# Altium footprint library ECR_Plib.PcbLib: 18 footprints (part 1 of 2)
Each footprint in its own frame and in the unit in brackets; x right, y up, seen from the top. Pads: shape width x height; smd on the part's side, far side on the other; paste and mask are expansions set on the pad; w line width, h text height; cw(c..) or ccw(c..) is an arc to the next point about the centre after c.
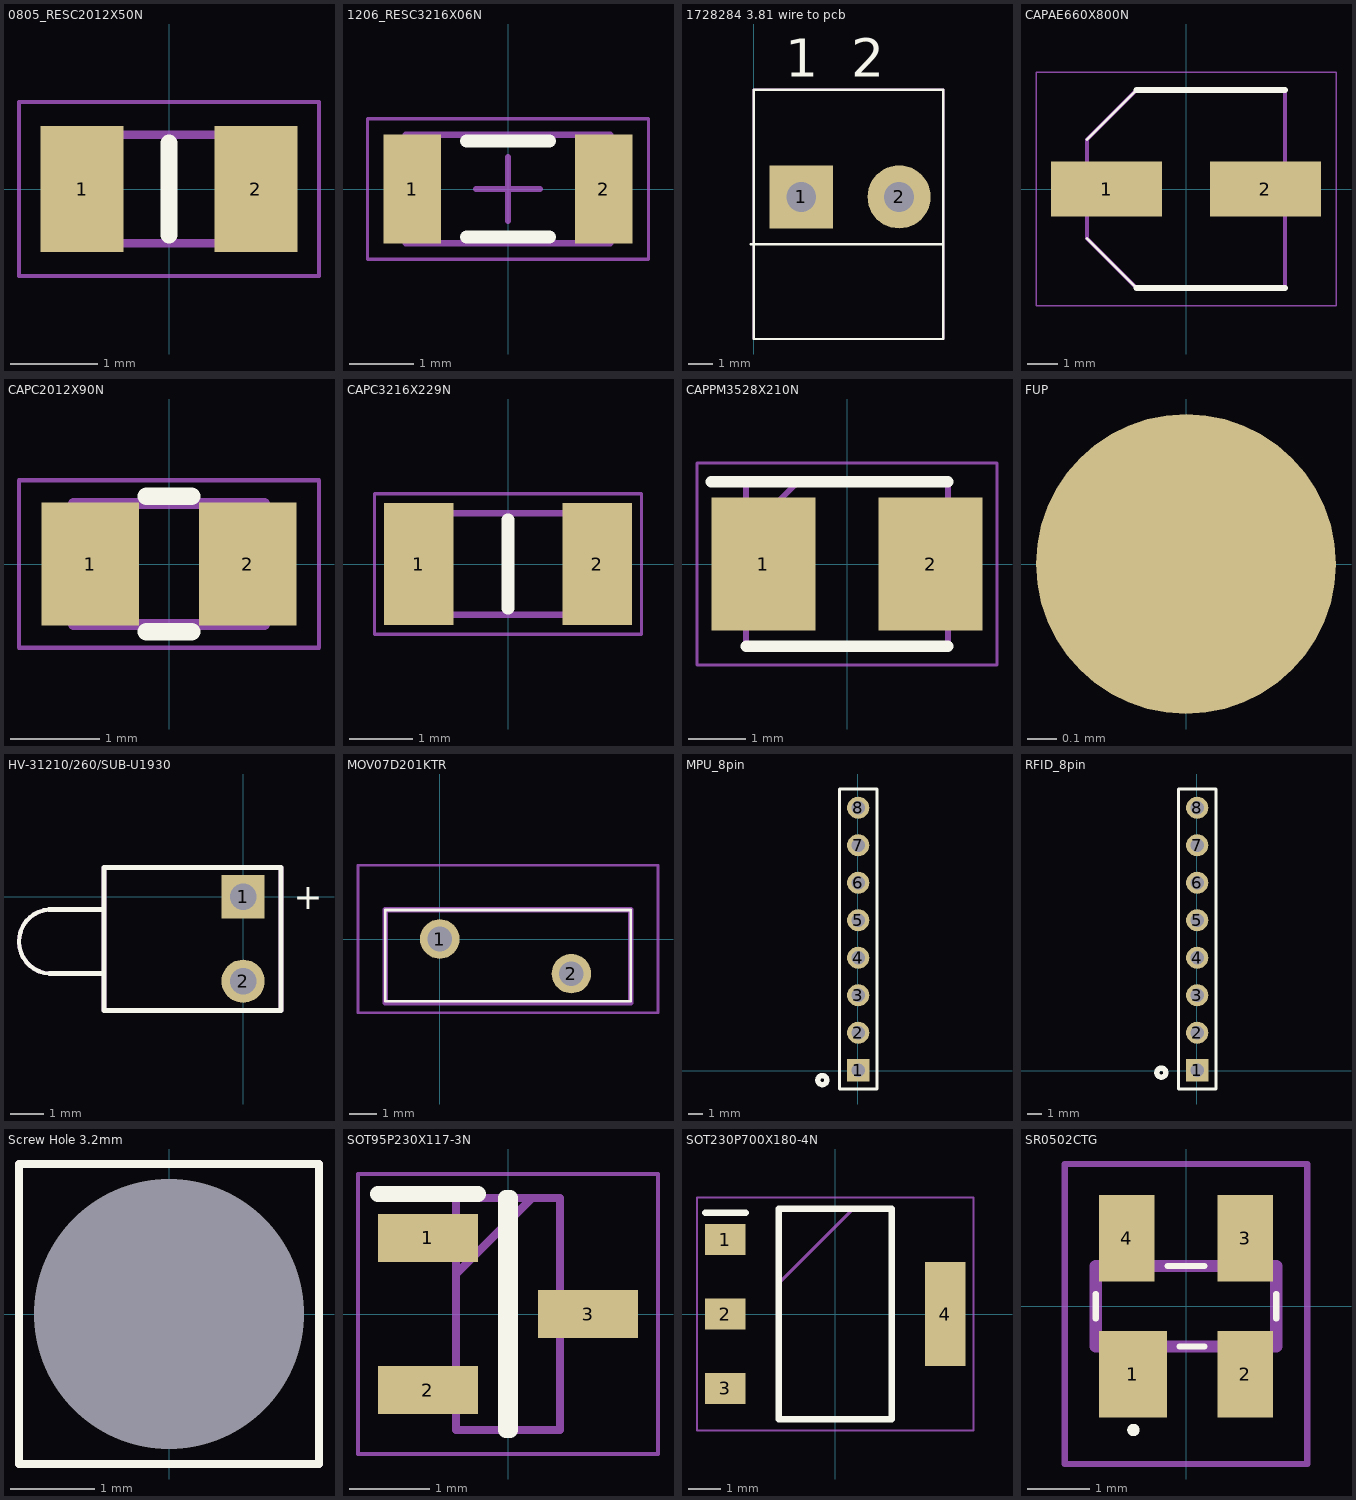
[diagram p0: the footprints below, top view; thin cyan lines are the x and y axes]

## 0805_RESC2012X50N [mm]
pads (2):
  rect 0.95x1.45 smd: 1(-1,0) 2(1,0)
Top Overlay:
  lines w0.2: 0,-0.525 0,0.525
Mechanical 15:
  lines w0.1: -1.025,-0.625 -1.025,0.625 1.025,0.625 1.025,-0.625 -1.025,-0.625
Mechanical 20:
  lines w0.05: -1.725,-1 -1.725,1 1.725,1 1.725,-1 -1.725,-1
3D body "CRCW080520K0JNEA.stp": height 0.45, standoff 0, extent -1.016,-0.615 0.984,0.635

## 1206_RESC3216X06N [mm] "Chip Resistor, 2-Leads, Body 3.15x1.65mm, IPC Medium Density"
height 0.55
pads (2):
  rect 0.9x1.7 smd: 1(-1.5,0) 2(1.5,0)
Top Overlay:
  lines w0.2: -0.65,-0.75 0.65,-0.75 ; -0.65,0.75 0.65,0.75
Top Assembly:
  lines w0.1: -1.6,-0.85 1.6,-0.85 1.6,0.85 -1.6,0.85 -1.6,-0.85
Mechanical 13:
  text "'.Designator'" at -2.184,-1.067 h2
Mechanical 15:
  lines w0.05: -2.2,-1.1 2.2,-1.1 2.2,1.1 -2.2,1.1 -2.2,-1.1
  lines w0.1: -0.5,0 0.5,0 ; 0,-0.5 0,0.5
3D body: height 0.55, standoff 0, extent 1.15,-0.85 1.6,0.85
3D body: height 0.55, standoff 0, extent -1.6,-0.85 -1.15,0.85
3D body: height 0.55, standoff 0, extent -1.15,-0.85 1.15,0.85

## 1728284 3.81 wire to pcb [mil] "wire to pcb termincal block"
pads (2):
  rect 100x100 hole 47.24: 1(75,290)
  round 100 hole 47.24: 2(230,290)
Top Overlay:
  lines w3.94: -5,215 300,215 ; 0,65 300,65 300,460 0,460 0,65
  text "1  2" at 50,480 h60
Mechanical 13:
  lines w3.94: 295,460 0,460 ; 0,460 0,65 300,65 300,460 0,460
  text "'.Designator'" at -5,229.99 h60
3D body "1728284.stp": height 373.94, standoff -137.79, extent 0,65 300,458.7

## CAPAE660X800N [mm]
pads (2):
  rect 3.7x1.85 smd: 1(-2.65,0) 2(2.65,0)
Top Overlay:
  lines w0.1: -3.3,-1.65 -1.65,-3.3 3.3,-3.3 ; -3.3,1.65 -1.65,3.3 3.3,3.3
  lines w0.2: -1.65,-3.3 3.3,-3.3 ; -1.65,3.3 3.3,3.3
Mechanical 15:
  lines w0.125: -3.3,-1.65 -1.65,-3.3 3.3,-3.3 3.3,3.3 -1.65,3.3 -3.3,1.65 -3.3,-1.65
Mechanical 20:
  lines w0.05: -5,-3.9 -5,3.9 5,3.9 5,-3.9 -5,-3.9
3D body "MCESL100V106M6.3X7.7.stp": height 8, standoff 0, extent -3.8,-3.4 3.8,3.4

## CAPC2012X90N [mm]
pads (2):
  rect 1.1x1.38 smd: 1(-0.885,0) 2(0.885,0)
Top Overlay:
  lines w0.2: -0.254,-0.762 0.254,-0.762 ; -0.254,0.762 0.254,0.762
Mechanical 13:
  lines w0.127: -1.07,-0.68 1.07,-0.68 1.07,0.68 -1.07,0.68 -1.07,-0.68
Mechanical 15:
  lines w0.05: -1.685,-0.94 1.685,-0.94 1.685,0.94 -1.685,0.94 -1.685,-0.94
3D body "CC0805KKX7R7BB105.stp": height 1.45, standoff 0, extent -1,-0.625 1,0.625

## CAPC3216X229N [mm]
pads (2):
  rect 1.1x1.92 smd: 1(-1.41,0) 2(1.41,0)
Top Overlay:
  lines w0.2: 0,-0.7 0,0.7
Mechanical 15:
  lines w0.1: -1.6,-0.8 1.6,-0.8 1.6,0.8 -1.6,0.8 -1.6,-0.8
Mechanical 20:
  lines w0.05: -2.11,-1.11 2.11,-1.11 2.11,1.11 -2.11,1.11 -2.11,-1.11
3D body "12061C105KAT2A.stp": height 2.29, standoff 0, extent -1.6,-0.8 1.6,0.8

## CAPPM3528X210N [mm]
pads (2):
  rect 1.8x2.3 smd: 1(-1.45,0) 2(1.45,0)
Top Overlay:
  lines w0.2: -2.35,1.425 1.75,1.425 ; -1.75,-1.425 1.75,-1.425
Mechanical 13:
  lines w0.1: -1.75,0.525 -0.85,1.425 ; -1.75,-1.425 -1.75,1.425 1.75,1.425 1.75,-1.425 -1.75,-1.425
Mechanical 15:
  lines w0.05: -2.6,-1.75 -2.6,1.75 2.6,1.75 2.6,-1.75 -2.6,-1.75
3D body "TPSB106K020R1000.stp": height 2.1, standoff 0, extent -1.75,-1.425 1.75,1.425

## FUP [mil]
pads (1):
  round 40 smd paste-40 mask+40: ""(0,0)

## HV-31210/260/SUB-U1930 [mm]
pads (2):
  rect 1.3x1.3 hole 0.8: 1(0,0)
  round 1.3 hole 0.8: 2(0,-2.54)
Top Overlay:
  lines w0.127: -5.842,-0.381 ccw(c-5.78,-1.346) -5.823,-2.313
  lines w0.151: -5.842,-0.381 -4.191,-0.381 ; -5.823,-2.313 -4.218,-2.313 ; -4.182,-3.429 -4.182,0.889 1.143,0.889 1.143,-3.429 -4.182,-3.429
  text "+" at 1.524,-0.381 h0.76
Mechanical 13:
  lines w0.127: -5.842,-0.381 ccw(c-5.78,-1.346) -5.823,-2.313
  lines w0.151: -5.842,-0.381 -4.191,-0.381 ; -5.823,-2.313 -4.218,-2.313 ; -4.182,-3.429 -4.182,0.889 1.143,0.889 1.143,-3.429 -4.182,-3.429
  text "'.Designator'" at -3.81,-1.905 h0.76
3D body: height 5, standoff 0, extent -5.848,-3.429 1.143,0.889

## MOV07D201KTR [mm]
pads (2):
  round 1.45 hole 0.9: 1(0,0) 2(4.826,-1.27)
Top Overlay:
  lines w0.1: -2,-2.286 7,-2.286 7,1.065 -2,1.065 -2,-2.286
Mechanical 15:
  lines w0.2: -2,-2.335 7,-2.335 7,1.065 -2,1.065 -2,-2.335
Mechanical 20:
  lines w0.1: -3,-2.7 8,-2.7 8,2.7 -3,2.7 -3,-2.7
3D body "MOV-07D201KTR.stp": height 11.1, standoff -5, extent -2,-2.335 7,1.065

## MPU_8pin [mm]
pads (8):
  rect 1.5x1.5 hole 0.9: 1(0.014,0.033)
  round 1.5 hole 0.9: 2(0.014,2.573) 3(0.014,5.113) 4(0.014,7.653) 5(0.014,10.193) 6(0.014,12.733) 7(0.014,15.273) 8(0.014,17.813)
Top Overlay:
  circle w0.254: c-2.413,-0.635 r0.254
  circle w0.254: c-2.413,-0.635 r0.359
  lines w0.2: -1.256,-1.237 1.284,-1.237 1.284,19.083 -1.256,19.083 -1.256,-1.237

## RFID_8pin [mm]
pads (8):
  rect 1.5x1.5 hole 0.9: 1(0.014,0.033)
  round 1.5 hole 0.9: 2(0.014,2.573) 3(0.014,5.113) 4(0.014,7.653) 5(0.014,10.193) 6(0.014,12.733) 7(0.014,15.273) 8(0.014,17.813)
Top Overlay:
  circle w0.254: c-2.413,-0.127 r0.254
  circle w0.254: c-2.413,-0.127 r0.359
  lines w0.2: -1.256,-1.237 -1.256,19.083 1.284,19.083 1.284,-1.237 -1.256,-1.237

## Screw Hole 3.2mm [mm] "PCB Mounting Hole 3.2mm"
pads (1):
  round 3 hole 3.2 mask-0.254: ""(0,0)
Top Overlay:
  lines w0.1: -1.778,-1.778 -1.778,-1.524 -1.778,0 -1.778,1.778 1.778,1.778 1.778,-1.778 -1.778,-1.778
Mechanical 1:
  lines w0.1: -1.778,-1.778 -1.778,-1.524 -1.778,0 -1.778,1.778 1.778,1.778 1.778,-1.778 -1.778,-1.778

## SOT95P230X117-3N [mm]
pads (3):
  rect 1.25x0.6 smd: 1(-1,0.95) 2(-1,-0.95) 3(1,0)
Top Overlay:
  lines w0.2: -1.625,1.5 -0.375,1.5 ; -0.025,-1.45 -0.025,1.45 0.025,1.45 0.025,-1.45 -0.025,-1.45
Mechanical 13:
  lines w0.1: -0.65,0.5 0.3,1.45 ; -0.65,-1.45 -0.65,1.45 0.65,1.45 0.65,-1.45 -0.65,-1.45
Mechanical 15:
  lines w0.05: -1.875,-1.75 -1.875,1.75 1.875,1.75 1.875,-1.75 -1.875,-1.75
3D body "CDSOT23-SM712.stp": height 1.17, standoff 0, extent -1.148,-1.45 1.148,1.45

## SOT230P700X180-4N [mm]
pads (4):
  rect 1.25x0.95 smd: 1(-3.4,2.3) 2(-3.4,0) 3(-3.4,-2.3)
  rect 1.25x3.2 smd: 4(3.4,0)
Top Overlay:
  lines w0.2: -4.025,3.125 -2.775,3.125 ; -1.75,-3.25 1.75,-3.25 1.75,3.25 -1.75,3.25 -1.75,-3.25
Mechanical 15:
  lines w0.1: -1.75,0.95 0.55,3.25 ; -1.75,-3.25 1.75,-3.25 1.75,3.25 -1.75,3.25 -1.75,-3.25
Mechanical 20:
  lines w0.05: -4.275,-3.6 4.275,-3.6 4.275,3.6 -4.275,3.6 -4.275,-3.6
3D body "NCP1117ST33T3G.stp": height 1.8, standoff 0, extent -3.5,-3.25 3.5,3.25

## SR0502CTG [mm]
pads (4):
  rect 1.1x1.4 smd: 1(-0.86,-1.1)
  rect 0.9x1.4 smd: 2(0.96,-1.1) 3(0.96,1.1) 4(-0.96,1.1)
Top Overlay:
  lines w0.1: -1.46,-0.2 -1.46,0.2 ; -0.3,0.65 0.3,0.65 ; -0.1,-0.65 0.3,-0.65 ; 1.46,-0.2 1.46,0.2 ; -0.9,-2 cw(c-0.85,-2) -0.8,-2 cw(c-0.85,-2) -0.9,-2
Mechanical 13:
  lines w0.2: -1.46,-0.65 1.46,-0.65 1.46,0.65 -1.46,0.65 -1.46,-0.65
Mechanical 15:
  lines w0.1: -1.96,-2.55 1.96,-2.55 1.96,2.3 -1.96,2.3 -1.96,-2.55
3D body "SR05-02CTG.stp": height 1.23, standoff 0, extent -1.184,-1.595 1.184,1.335